# Altium schematic symbol library PG-HSOG-8-1_Infineon.SchLib: 1 symbol
Pins are listed as number, name and electrical type; pins without a type are passive.

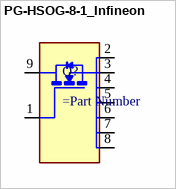
[diagram p0: symbol PG-HSOG-8-1_Infineon]

## PG-HSOG-8-1_Infineon
designator Q?
=Description
pins: 1 G, 2 D, 3 D, 4 D, 5 D, 6 D, 7 D, 8 D, 9 S